# EAGLE library part GENERIC-1X7 (library p.peter-connectors)
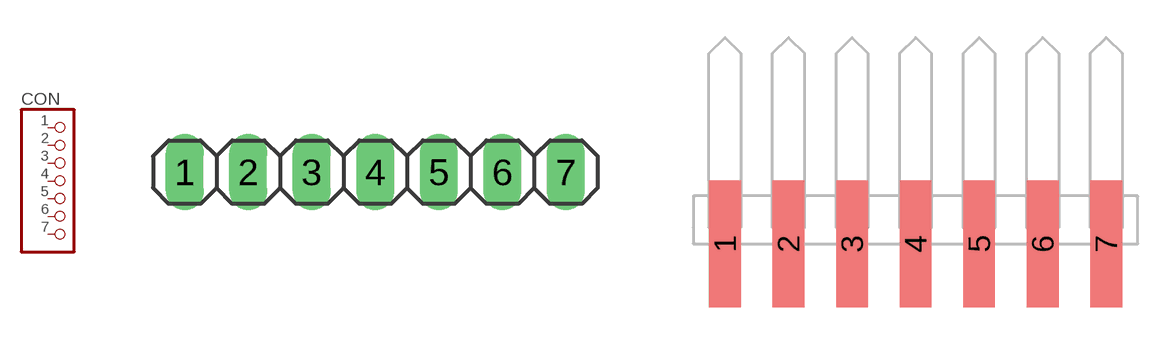
[diagram p16: symbol with the pads of PINHEADER-100MIL-1X7; footprints PINHEADER-100MIL-1X7, PINHEADER-100MIL-1X7-SMD]

Designator prefix CON

## GENERIC-1X7THT  [PINHEADER-100MIL-1X7]
1  1  pas
2  2  pas
3  3  pas
4  4  pas
5  5  pas
6  6  pas
7  7  pas

## GENERIC-1X7SMD  [PINHEADER-100MIL-1X7-SMD]
Pads as for PINHEADER-100MIL-1X7

## Footprint PINHEADER-100MIL-1X7 (pad centres in mm)
drill 1.016 long: 1 -7.62,0; 2 -5.08,0; 3 -2.54,0; 4 0,0; 5 2.54,0; 6 5.08,0; 7 7.62,0

## Footprint PINHEADER-100MIL-1X7-SMD (pad centres in mm)
smd 1.27 x 5.08: 1 -7.62,0; 2 -5.08,0; 3 -2.54,0; 4 0,0; 5 2.54,0; 6 5.08,0; 7 7.62,0